# EAGLE library part MPT0,5/6-2,54 (library con-phoenix-254)
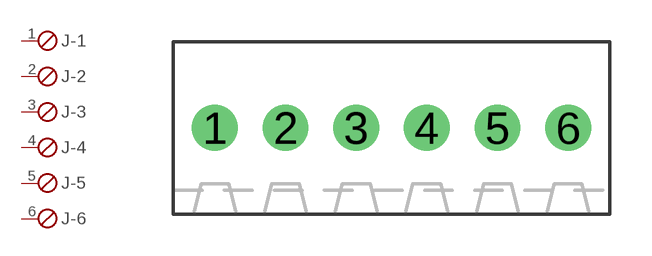
[diagram p0: symbol with the pads of MPT0,5/6-2,54; footprint MPT0,5/6-2,54]

Designator prefix J; gates -1=SKB -2=SKB -3=SKB -4=SKB -5=SKB -6=SKB

## MPT0,5/6-2,54 (MF: Phoenix; MPN: 1725698)  [MPT0,5/6-2,54]
1  -1:1  pas
2  -2:1  pas
3  -3:1  pas
4  -4:1  pas
5  -5:1  pas
6  -6:1  pas

## Footprint MPT0,5/6-2,54 (pad centres in mm)
drill 1.1: 1 -6.35,0; 2 -3.81,0; 3 -1.27,0; 4 1.27,0; 5 3.81,0; 6 6.35,0